# EAGLE library part BKA30D-R5 (library clock)
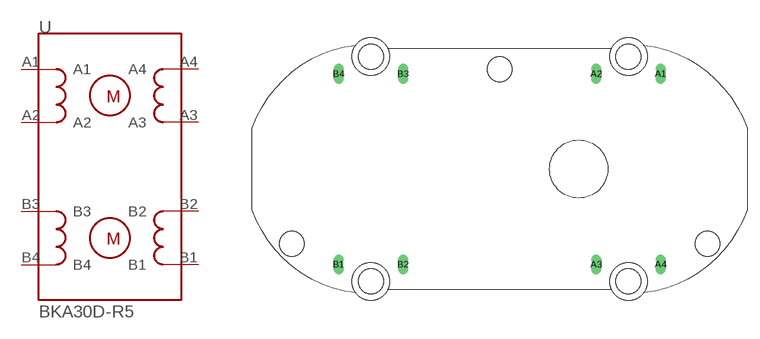
[diagram p7: symbol with the pads of BKA30D-R5; footprint BKA30D-R5]

Designator prefix -

## BKA30D-R5  [BKA30D-R5]
A1  A1
A2  A2
A3  A3
A4  A4
B1  B1
B2  B2
B3  B3
B4  B4

## Footprint BKA30D-R5 (pad centres in mm)
drill 0.7 long: A1 19.375,11.45; A2 11.625,11.45; A3 11.625,-11.45; A4 19.375,-11.45; B1 -19.375,-11.45; B2 -11.625,-11.45; B3 -11.625,11.45; B4 -19.375,11.45
hole 3 at -15.5,13.5
hole 3 at -15.5,-13.5
hole 3 at 15.5,-13.5
hole 3 at 15.5,13.5
hole 3 at -25,-9
hole 3 at 25,-9
hole 3 at 0,12